# Altium footprint library DIODE_SMC(DO-214AB).PcbLib: 1 footprints
Each footprint in its own frame and in the unit in brackets; x right, y up, seen from the top. Pads: shape width x height; smd on the part's side, far side on the other; paste and mask are expansions set on the pad; w line width, h text height; cw(c..) or ccw(c..) is an arc to the next point about the centre after c.
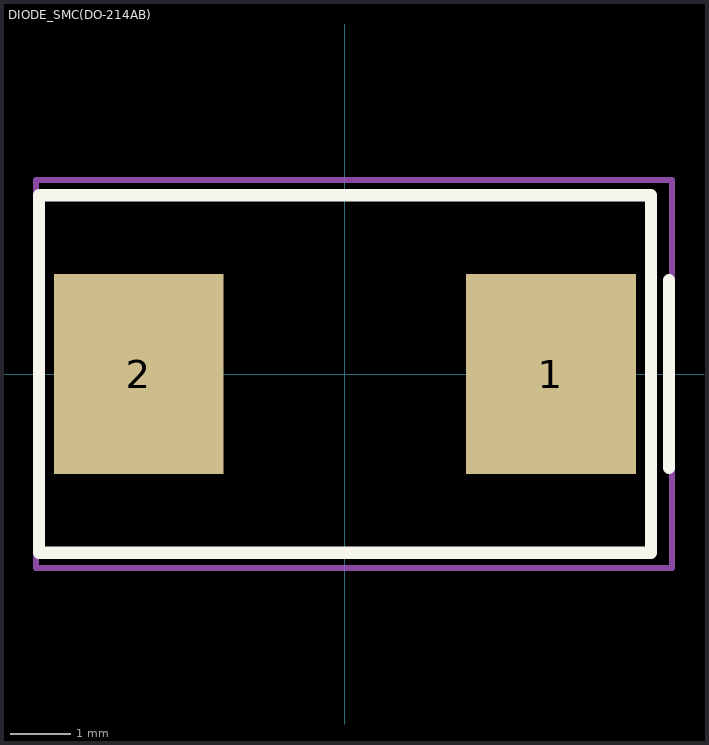
[diagram p0: the footprint, top view; thin cyan lines are the x and y axes]

## DIODE_SMC(DO-214AB) [mm]
pads (2):
  rect 2.8x3.3 smd: 1(3.4,0) 2(-3.4,0)
Top Overlay:
  lines w0.2: 5.35,-1.55 5.35,1.55 ; -5.05,-2.95 5.05,-2.95 5.05,2.95 -5.05,2.95 -5.05,-2.95
Top Courtyard:
  lines w0.1: -5.1,-3.2 5.4,-3.2 5.4,3.2 -5.1,3.2 -5.1,-3.2
3D body "SMC.STEP": height 2.6, standoff 0, extent -3.97,-2.952 3.97,2.952